# Altium integrated library WE-PD (rev22a).IntLib: 359 symbols (part 3 of 6)
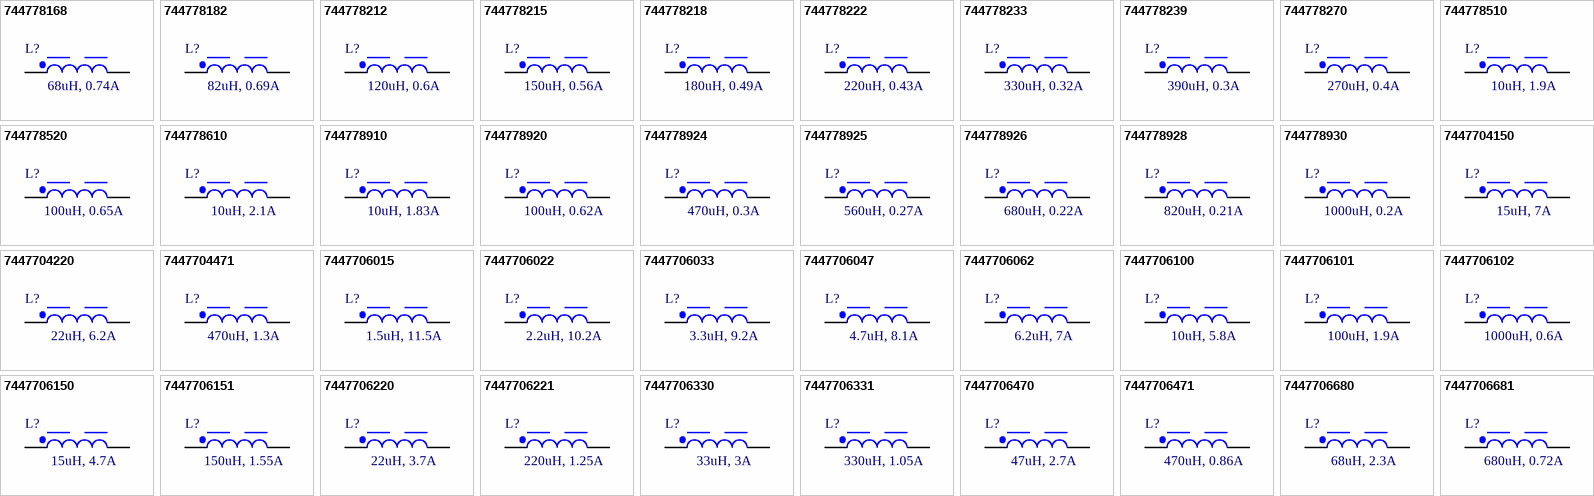
[diagram p10: symbols 744778168 to 7447706681]

## 744778926
designator L?, comment 680uH, 0.22A
WE-PD SMT Power Inductor, size 7332R, 680uH, 0.22A, 5730mOhm; Manufacturer: Wurth Elektronik; Manufacturer Part Number: 744778926; Self Resonant Frequency: 3.4MHz; DC Resistance typ.: 4500mOhm; Type: Robust; ComponentLink1Description: Manufacturer; ComponentLink1URL: http://www.we-online.de; ComponentLink2Description: Datasheet; ComponentLink2URL: https://www.we-online.com/catalog/datasheet/744778926.pdf; Mounting Technology: SMT; Operating Temperature: -40 to +125degC; Packaging: Tape and Reel; DC Resistance max.: 5730mOhm; Inductance: 680uH; Saturation Current: 0.22A; Rated Current: 0.22A; Size: 7332R; Height: 3.2mm; Length: 7.3mm; Width: 7.3mm
footprint WE-PD_7332R
pins: 1, 2

## 744778928
designator L?, comment 820uH, 0.21A
WE-PD SMT Power Inductor, size 7332R, 820uH, 0.21A, 6540mOhm; Manufacturer: Wurth Elektronik; Manufacturer Part Number: 744778928; Self Resonant Frequency: 2.8MHz; DC Resistance typ.: 4990mOhm; Saturation Current: 0.2A; Type: Robust; ComponentLink1Description: Manufacturer; ComponentLink1URL: http://www.we-online.de; ComponentLink2Description: Datasheet; ComponentLink2URL: https://www.we-online.com/catalog/datasheet/744778928.pdf; Mounting Technology: SMT; Operating Temperature: -40 to +125degC; Packaging: Tape and Reel; DC Resistance max.: 6540mOhm; Inductance: 820uH; Rated Current: 0.21A; Size: 7332R; Height: 3.2mm; Length: 7.3mm; Width: 7.3mm
footprint WE-PD_7332R
pins: 1, 2

## 744778930
designator L?, comment 1000uH, 0.2A
WE-PD SMT Power Inductor, size 7332R, 1000uH, 0.2A, 9440mOhm; Manufacturer: Wurth Elektronik; Manufacturer Part Number: 744778930; Self Resonant Frequency: 2.6MHz; DC Resistance typ.: 5570mOhm; Saturation Current: 0.18A; Type: Robust; ComponentLink1Description: Manufacturer; ComponentLink1URL: http://www.we-online.de; ComponentLink2Description: Datasheet; ComponentLink2URL: https://www.we-online.com/catalog/datasheet/744778930.pdf; Mounting Technology: SMT; Operating Temperature: -40 to +125degC; Packaging: Tape and Reel; DC Resistance max.: 9440mOhm; Inductance: 1000uH; Rated Current: 0.2A; Size: 7332R; Height: 3.2mm; Length: 7.3mm; Width: 7.3mm
footprint WE-PD_7332R
pins: 1, 2

## 7447704150
designator L?, comment 15uH, 7A
WE-PD SMT Power Inductor, size 1510, 15uH, 7A, 26mOhm; Manufacturer: Wurth Elektronik; Manufacturer Part Number: 7447704150; Self Resonant Frequency: 20.5MHz; DC Resistance typ.: 19.5mOhm; Saturation Current: 8.8A; Type: Standard; ComponentLink1Description: Manufacturer; ComponentLink1URL: http://www.we-online.de; ComponentLink2Description: Datasheet; ComponentLink2URL: https://www.we-online.com/catalog/datasheet/7447704150.pdf; Mounting Technology: SMT; Operating Temperature: -40 to +125degC; Packaging: Tape and Reel; DC Resistance max.: 26mOhm; Inductance: 15uH; Rated Current: 7A; Size: 1510; Height: 10mm; Length: 15mm; Width: 15mm
footprint WE-PD_1510
pins: 1, 2

## 7447704220
designator L?, comment 22uH, 6.2A
WE-PD SMT Power Inductor, size 1510, 22uH, 6.2A, 33mOhm; Manufacturer: Wurth Elektronik; Manufacturer Part Number: 7447704220; Self Resonant Frequency: 11.5MHz; DC Resistance typ.: 25mOhm; Saturation Current: 7.2A; Type: Standard; ComponentLink1Description: Manufacturer; ComponentLink1URL: http://www.we-online.de; ComponentLink2Description: Datasheet; ComponentLink2URL: https://www.we-online.com/catalog/datasheet/7447704220.pdf; Mounting Technology: SMT; Operating Temperature: -40 to +125degC; Packaging: Tape and Reel; DC Resistance max.: 33mOhm; Inductance: 22uH; Rated Current: 6.2A; Size: 1510; Height: 10mm; Length: 15mm; Width: 15mm
footprint WE-PD_1510
pins: 1, 2

## 7447704471
designator L?, comment 470uH, 1.3A
WE-PD SMT Power Inductor, size 1510, 470uH, 1.3A, 500mOhm; Manufacturer: Wurth Elektronik; Manufacturer Part Number: 7447704471; Self Resonant Frequency: 1.7MHz; DC Resistance typ.: 425mOhm; Saturation Current: 1.7A; Type: Standard; ComponentLink1Description: Manufacturer; ComponentLink1URL: http://www.we-online.de; ComponentLink2Description: Datasheet; ComponentLink2URL: https://www.we-online.com/catalog/datasheet/7447704471.pdf; Mounting Technology: SMT; Operating Temperature: -40 to +125degC; Packaging: Tape and Reel; DC Resistance max.: 500mOhm; Inductance: 470uH; Rated Current: 1.3A; Size: 1510; Height: 10mm; Length: 15mm; Width: 15mm
footprint WE-PD_1510
pins: 1, 2

## 7447706015
designator L?, comment 1.5uH, 11.5A
WE-PD SMT Power Inductor, size 1260P, 1.5uH, 11.5A, 7mOhm; Manufacturer: Wurth Elektronik; Manufacturer Part Number: 7447706015; Self Resonant Frequency: 50.5MHz; DC Resistance typ.: 5mOhm; Saturation Current: 20A; Type: Performance; ComponentLink1Description: Manufacturer; ComponentLink1URL: http://www.we-online.de; ComponentLink2Description: Datasheet; ComponentLink2URL: https://www.we-online.com/catalog/datasheet/7447706015.pdf; Mounting Technology: SMT; Operating Temperature: -40 to +150degC; Packaging: Tape and Reel; DC Resistance max.: 7mOhm; Inductance: 1.5uH; Rated Current: 11.5A; Size: 1260P; Height: 6mm; Length: 12mm; Width: 12mm
footprint WE-PD_1260P
pins: 1, 2

## 7447706022
designator L?, comment 2.2uH, 10.2A
WE-PD SMT Power Inductor, size 1260P, 2.2uH, 10.2A, 8.5mOhm; Manufacturer: Wurth Elektronik; Manufacturer Part Number: 7447706022; Self Resonant Frequency: 40.2MHz; DC Resistance typ.: 6.2mOhm; Saturation Current: 16.5A; Type: Performance; ComponentLink1Description: Manufacturer; ComponentLink1URL: http://www.we-online.de; ComponentLink2Description: Datasheet; ComponentLink2URL: https://www.we-online.com/catalog/datasheet/7447706022.pdf; Mounting Technology: SMT; Operating Temperature: -40 to +150degC; Packaging: Tape and Reel; DC Resistance max.: 8.5mOhm; Inductance: 2.2uH; Rated Current: 10.2A; Size: 1260P; Height: 6mm; Length: 12mm; Width: 12mm
footprint WE-PD_1260P
pins: 1, 2

## 7447706033
designator L?, comment 3.3uH, 9.2A
WE-PD SMT Power Inductor, size 1260P, 3.3uH, 9.2A, 10mOhm; Manufacturer: Wurth Elektronik; Manufacturer Part Number: 7447706033; Self Resonant Frequency: 32.2MHz; DC Resistance typ.: 7.5mOhm; Saturation Current: 13.5A; Type: Performance; ComponentLink1Description: Manufacturer; ComponentLink1URL: http://www.we-online.de; ComponentLink2Description: Datasheet; ComponentLink2URL: https://www.we-online.com/catalog/datasheet/7447706033.pdf; Mounting Technology: SMT; Operating Temperature: -40 to +150degC; Packaging: Tape and Reel; DC Resistance max.: 10mOhm; Inductance: 3.3uH; Rated Current: 9.2A; Size: 1260P; Height: 6mm; Length: 12mm; Width: 12mm
footprint WE-PD_1260P
pins: 1, 2

## 7447706047
designator L?, comment 4.7uH, 8.1A
WE-PD SMT Power Inductor, size 1260P, 4.7uH, 8.1A, 12mOhm; Manufacturer: Wurth Elektronik; Manufacturer Part Number: 7447706047; Self Resonant Frequency: 27.4MHz; DC Resistance typ.: 9mOhm; Saturation Current: 11.5A; Type: Performance; ComponentLink1Description: Manufacturer; ComponentLink1URL: http://www.we-online.de; ComponentLink2Description: Datasheet; ComponentLink2URL: https://www.we-online.com/catalog/datasheet/7447706047.pdf; Mounting Technology: SMT; Operating Temperature: -40 to +150degC; Packaging: Tape and Reel; DC Resistance max.: 12mOhm; Inductance: 4.7uH; Rated Current: 8.1A; Size: 1260P; Height: 6mm; Length: 12mm; Width: 12mm
footprint WE-PD_1260P
pins: 1, 2

## 7447706062
designator L?, comment 6.2uH, 7A
WE-PD SMT Power Inductor, size 1260P, 6.2uH, 7A, 15mOhm; Manufacturer: Wurth Elektronik; Manufacturer Part Number: 7447706062; Self Resonant Frequency: 22.5MHz; DC Resistance typ.: 12mOhm; Saturation Current: 10A; Type: Performance; ComponentLink1Description: Manufacturer; ComponentLink1URL: http://www.we-online.de; ComponentLink2Description: Datasheet; ComponentLink2URL: https://www.we-online.com/catalog/datasheet/7447706062.pdf; Mounting Technology: SMT; Operating Temperature: -40 to +150degC; Packaging: Tape and Reel; DC Resistance max.: 15mOhm; Inductance: 6.2uH; Rated Current: 7A; Size: 1260P; Height: 6mm; Length: 12mm; Width: 12mm
footprint WE-PD_1260P
pins: 1, 2

## 7447706100
designator L?, comment 10uH, 5.8A
WE-PD SMT Power Inductor, size 1260P, 10uH, 5.8A, 20mOhm; Manufacturer: Wurth Elektronik; Manufacturer Part Number: 7447706100; Self Resonant Frequency: 17.6MHz; DC Resistance typ.: 16.3mOhm; Saturation Current: 7.8A; Type: Performance; ComponentLink1Description: Manufacturer; ComponentLink1URL: http://www.we-online.de; ComponentLink2Description: Datasheet; ComponentLink2URL: https://www.we-online.com/catalog/datasheet/7447706100.pdf; Mounting Technology: SMT; Operating Temperature: -40 to +150degC; Packaging: Tape and Reel; DC Resistance max.: 20mOhm; Inductance: 10uH; Rated Current: 5.8A; Size: 1260P; Height: 6mm; Length: 12mm; Width: 12mm
footprint WE-PD_1260P
pins: 1, 2

## 7447706101
designator L?, comment 100uH, 1.9A
WE-PD SMT Power Inductor, size 1260P, 100uH, 1.9A, 140mOhm; Manufacturer: Wurth Elektronik; Manufacturer Part Number: 7447706101; Self Resonant Frequency: 5.2MHz; DC Resistance typ.: 122mOhm; Saturation Current: 2.5A; Type: Performance; ComponentLink1Description: Manufacturer; ComponentLink1URL: http://www.we-online.de; ComponentLink2Description: Datasheet; ComponentLink2URL: https://www.we-online.com/catalog/datasheet/7447706101.pdf; Mounting Technology: SMT; Operating Temperature: -40 to +150degC; Packaging: Tape and Reel; DC Resistance max.: 140mOhm; Inductance: 100uH; Rated Current: 1.9A; Size: 1260P; Height: 6mm; Length: 12mm; Width: 12mm
footprint WE-PD_1260P
pins: 1, 2

## 7447706102
designator L?, comment 1000uH, 0.6A
WE-PD SMT Power Inductor, size 1260P, 1000uH, 0.6A, 1250mOhm; Manufacturer: Wurth Elektronik; Manufacturer Part Number: 7447706102; Self Resonant Frequency: 1.45MHz; DC Resistance typ.: 1150mOhm; Saturation Current: 0.8A; Type: Performance; ComponentLink1Description: Manufacturer; ComponentLink1URL: http://www.we-online.de; ComponentLink2Description: Datasheet; ComponentLink2URL: https://www.we-online.com/catalog/datasheet/7447706102.pdf; Mounting Technology: SMT; Operating Temperature: -40 to +150degC; Packaging: Tape and Reel; DC Resistance max.: 1250mOhm; Inductance: 1000uH; Rated Current: 0.6A; Size: 1260P; Height: 6mm; Length: 12mm; Width: 12mm
footprint WE-PD_1260P
pins: 1, 2

## 7447706150
designator L?, comment 15uH, 4.7A
WE-PD SMT Power Inductor, size 1260P, 15uH, 4.7A, 28mOhm; Manufacturer: Wurth Elektronik; Manufacturer Part Number: 7447706150; Self Resonant Frequency: 13.9MHz; DC Resistance typ.: 22.9mOhm; Saturation Current: 6.4A; Type: Performance; ComponentLink1Description: Manufacturer; ComponentLink1URL: http://www.we-online.de; ComponentLink2Description: Datasheet; ComponentLink2URL: https://www.we-online.com/catalog/datasheet/7447706150.pdf; Mounting Technology: SMT; Operating Temperature: -40 to +150degC; Packaging: Tape and Reel; DC Resistance max.: 28mOhm; Inductance: 15uH; Rated Current: 4.7A; Size: 1260P; Height: 6mm; Length: 12mm; Width: 12mm
footprint WE-PD_1260P
pins: 1, 2

## 7447706151
designator L?, comment 150uH, 1.55A
WE-PD SMT Power Inductor, size 1260P, 150uH, 1.55A, 200mOhm; Manufacturer: Wurth Elektronik; Manufacturer Part Number: 7447706151; Self Resonant Frequency: 4.2MHz; DC Resistance typ.: 175mOhm; Saturation Current: 2A; Type: Performance; ComponentLink1Description: Manufacturer; ComponentLink1URL: http://www.we-online.de; ComponentLink2Description: Datasheet; ComponentLink2URL: https://www.we-online.com/catalog/datasheet/7447706151.pdf; Mounting Technology: SMT; Operating Temperature: -40 to +150degC; Packaging: Tape and Reel; DC Resistance max.: 200mOhm; Inductance: 150uH; Rated Current: 1.55A; Size: 1260P; Height: 6mm; Length: 12mm; Width: 12mm
footprint WE-PD_1260P
pins: 1, 2

## 7447706220
designator L?, comment 22uH, 3.7A
WE-PD SMT Power Inductor, size 1260P, 22uH, 3.7A, 41mOhm; Manufacturer: Wurth Elektronik; Manufacturer Part Number: 7447706220; Self Resonant Frequency: 11MHz; DC Resistance typ.: 34.3mOhm; Saturation Current: 5.2A; Type: Performance; ComponentLink1Description: Manufacturer; ComponentLink1URL: http://www.we-online.de; ComponentLink2Description: Datasheet; ComponentLink2URL: https://www.we-online.com/catalog/datasheet/7447706220.pdf; Mounting Technology: SMT; Operating Temperature: -40 to +150degC; Packaging: Tape and Reel; DC Resistance max.: 41mOhm; Inductance: 22uH; Rated Current: 3.7A; Size: 1260P; Height: 6mm; Length: 12mm; Width: 12mm
footprint WE-PD_1260P
pins: 1, 2

## 7447706221
designator L?, comment 220uH, 1.25A
WE-PD SMT Power Inductor, size 1260P, 220uH, 1.25A, 310mOhm; Manufacturer: Wurth Elektronik; Manufacturer Part Number: 7447706221; Self Resonant Frequency: 3.3MHz; DC Resistance typ.: 273mOhm; Saturation Current: 1.7A; Type: Performance; ComponentLink1Description: Manufacturer; ComponentLink1URL: http://www.we-online.de; ComponentLink2Description: Datasheet; ComponentLink2URL: https://www.we-online.com/catalog/datasheet/7447706221.pdf; Mounting Technology: SMT; Operating Temperature: -40 to +150degC; Packaging: Tape and Reel; DC Resistance max.: 310mOhm; Inductance: 220uH; Rated Current: 1.25A; Size: 1260P; Height: 6mm; Length: 12mm; Width: 12mm
footprint WE-PD_1260P
pins: 1, 2

## 7447706330
designator L?, comment 33uH, 3A
WE-PD SMT Power Inductor, size 1260P, 33uH, 3A, 60mOhm; Manufacturer: Wurth Elektronik; Manufacturer Part Number: 7447706330; Self Resonant Frequency: 9.2MHz; DC Resistance typ.: 50.8mOhm; Saturation Current: 4.2A; Type: Performance; ComponentLink1Description: Manufacturer; ComponentLink1URL: http://www.we-online.de; ComponentLink2Description: Datasheet; ComponentLink2URL: https://www.we-online.com/catalog/datasheet/7447706330.pdf; Mounting Technology: SMT; Operating Temperature: -40 to +150degC; Packaging: Tape and Reel; DC Resistance max.: 60mOhm; Inductance: 33uH; Rated Current: 3A; Size: 1260P; Height: 6mm; Length: 12mm; Width: 12mm
footprint WE-PD_1260P
pins: 1, 2

## 7447706331
designator L?, comment 330uH, 1.05A
WE-PD SMT Power Inductor, size 1260P, 330uH, 1.05A, 450mOhm; Manufacturer: Wurth Elektronik; Manufacturer Part Number: 7447706331; Self Resonant Frequency: 2.6MHz; DC Resistance typ.: 395mOhm; Saturation Current: 1.4A; Type: Performance; ComponentLink1Description: Manufacturer; ComponentLink1URL: http://www.we-online.de; ComponentLink2Description: Datasheet; ComponentLink2URL: https://www.we-online.com/catalog/datasheet/7447706331.pdf; Mounting Technology: SMT; Operating Temperature: -40 to +150degC; Packaging: Tape and Reel; DC Resistance max.: 450mOhm; Inductance: 330uH; Rated Current: 1.05A; Size: 1260P; Height: 6mm; Length: 12mm; Width: 12mm
footprint WE-PD_1260P
pins: 1, 2

## 7447706470
designator L?, comment 47uH, 2.7A
WE-PD SMT Power Inductor, size 1260P, 47uH, 2.7A, 72mOhm; Manufacturer: Wurth Elektronik; Manufacturer Part Number: 7447706470; Self Resonant Frequency: 7.5MHz; DC Resistance typ.: 61.2mOhm; Saturation Current: 3.6A; Type: Performance; ComponentLink1Description: Manufacturer; ComponentLink1URL: http://www.we-online.de; ComponentLink2Description: Datasheet; ComponentLink2URL: https://www.we-online.com/catalog/datasheet/7447706470.pdf; Mounting Technology: SMT; Operating Temperature: -40 to +150degC; Packaging: Tape and Reel; DC Resistance max.: 72mOhm; Inductance: 47uH; Rated Current: 2.7A; Size: 1260P; Height: 6mm; Length: 12mm; Width: 12mm
footprint WE-PD_1260P
pins: 1, 2

## 7447706471
designator L?, comment 470uH, 0.86A
WE-PD SMT Power Inductor, size 1260P, 470uH, 0.86A, 610mOhm; Manufacturer: Wurth Elektronik; Manufacturer Part Number: 7447706471; Self Resonant Frequency: 2.3MHz; DC Resistance typ.: 543mOhm; Saturation Current: 1.15A; Type: Performance; ComponentLink1Description: Manufacturer; ComponentLink1URL: http://www.we-online.de; ComponentLink2Description: Datasheet; ComponentLink2URL: https://www.we-online.com/catalog/datasheet/7447706471.pdf; Mounting Technology: SMT; Operating Temperature: -40 to +150degC; Packaging: Tape and Reel; DC Resistance max.: 610mOhm; Inductance: 470uH; Rated Current: 0.86A; Size: 1260P; Height: 6mm; Length: 12mm; Width: 12mm
footprint WE-PD_1260P
pins: 1, 2

## 7447706680
designator L?, comment 68uH, 2.3A
WE-PD SMT Power Inductor, size 1260P, 68uH, 2.3A, 97mOhm; Manufacturer: Wurth Elektronik; Manufacturer Part Number: 7447706680; Self Resonant Frequency: 6.5MHz; DC Resistance typ.: 82mOhm; Saturation Current: 3A; Type: Performance; ComponentLink1Description: Manufacturer; ComponentLink1URL: http://www.we-online.de; ComponentLink2Description: Datasheet; ComponentLink2URL: https://www.we-online.com/catalog/datasheet/7447706680.pdf; Mounting Technology: SMT; Operating Temperature: -40 to +150degC; Packaging: Tape and Reel; DC Resistance max.: 97mOhm; Inductance: 68uH; Rated Current: 2.3A; Size: 1260P; Height: 6mm; Length: 12mm; Width: 12mm
footprint WE-PD_1260P
pins: 1, 2

## 7447706681
designator L?, comment 680uH, 0.72A
WE-PD SMT Power Inductor, size 1260P, 680uH, 0.72A, 860mOhm; Manufacturer: Wurth Elektronik; Manufacturer Part Number: 7447706681; Self Resonant Frequency: 1.8MHz; DC Resistance typ.: 780mOhm; Saturation Current: 0.95A; Type: Performance; ComponentLink1Description: Manufacturer; ComponentLink1URL: http://www.we-online.de; ComponentLink2Description: Datasheet; ComponentLink2URL: https://www.we-online.com/catalog/datasheet/7447706681.pdf; Mounting Technology: SMT; Operating Temperature: -40 to +150degC; Packaging: Tape and Reel; DC Resistance max.: 860mOhm; Inductance: 680uH; Rated Current: 0.72A; Size: 1260P; Height: 6mm; Length: 12mm; Width: 12mm
footprint WE-PD_1260P
pins: 1, 2

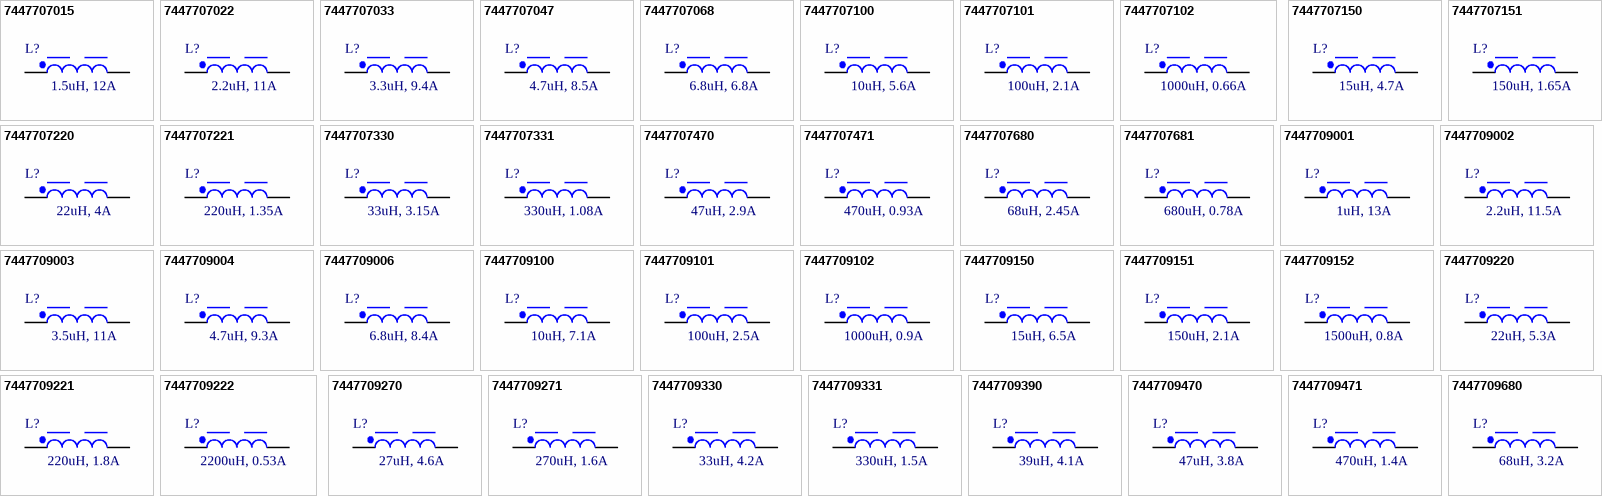
[diagram p4: symbols 7447707015 to 7447709680]

## 7447707015
designator L?, comment 1.5uH, 12A
WE-PD SMT Power Inductor, size 1280P, 1.5uH, 12A, 5.5mOhm; Manufacturer: Wurth Elektronik; Manufacturer Part Number: 7447707015; Self Resonant Frequency: 49.2MHz; DC Resistance typ.: 4.6mOhm; Saturation Current: 24A; Type: Performance; ComponentLink1Description: Manufacturer; ComponentLink1URL: http://www.we-online.de; ComponentLink2Description: Datasheet; ComponentLink2URL: https://www.we-online.com/catalog/datasheet/7447707015.pdf; Mounting Technology: SMT; Operating Temperature: -40 to +150degC; Packaging: Tape and Reel; DC Resistance max.: 5.5mOhm; Inductance: 1.5uH; Rated Current: 12A; Size: 1280P; Height: 8mm; Length: 12mm; Width: 12mm
footprint WE-PD_1280P
pins: 1, 2

## 7447707022
designator L?, comment 2.2uH, 11A
WE-PD SMT Power Inductor, size 1280P, 2.2uH, 11A, 6.8mOhm; Manufacturer: Wurth Elektronik; Manufacturer Part Number: 7447707022; Self Resonant Frequency: 41.7MHz; DC Resistance typ.: 5.7mOhm; Saturation Current: 20.5A; Type: Performance; ComponentLink1Description: Manufacturer; ComponentLink1URL: http://www.we-online.de; ComponentLink2Description: Datasheet; ComponentLink2URL: https://www.we-online.com/catalog/datasheet/7447707022.pdf; Mounting Technology: SMT; Operating Temperature: -40 to +150degC; Packaging: Tape and Reel; DC Resistance max.: 6.8mOhm; Inductance: 2.2uH; Rated Current: 11A; Size: 1280P; Height: 8mm; Length: 12mm; Width: 12mm
footprint WE-PD_1280P
pins: 1, 2

## 7447707033
designator L?, comment 3.3uH, 9.4A
WE-PD SMT Power Inductor, size 1280P, 3.3uH, 9.4A, 9mOhm; Manufacturer: Wurth Elektronik; Manufacturer Part Number: 7447707033; Self Resonant Frequency: 32.3MHz; DC Resistance typ.: 7.5mOhm; Saturation Current: 17.5A; Type: Performance; ComponentLink1Description: Manufacturer; ComponentLink1URL: http://www.we-online.de; ComponentLink2Description: Datasheet; ComponentLink2URL: https://www.we-online.com/catalog/datasheet/7447707033.pdf; Mounting Technology: SMT; Operating Temperature: -40 to +150degC; Packaging: Tape and Reel; DC Resistance max.: 9mOhm; Inductance: 3.3uH; Rated Current: 9.4A; Size: 1280P; Height: 8mm; Length: 12mm; Width: 12mm
footprint WE-PD_1280P
pins: 1, 2

## 7447707047
designator L?, comment 4.7uH, 8.5A
WE-PD SMT Power Inductor, size 1280P, 4.7uH, 8.5A, 10mOhm; Manufacturer: Wurth Elektronik; Manufacturer Part Number: 7447707047; Self Resonant Frequency: 28.8MHz; DC Resistance typ.: 8.5mOhm; Saturation Current: 15.5A; Type: Performance; ComponentLink1Description: Manufacturer; ComponentLink1URL: http://www.we-online.de; ComponentLink2Description: Datasheet; ComponentLink2URL: https://www.we-online.com/catalog/datasheet/7447707047.pdf; Mounting Technology: SMT; Operating Temperature: -40 to +150degC; Packaging: Tape and Reel; DC Resistance max.: 10mOhm; Inductance: 4.7uH; Rated Current: 8.5A; Size: 1280P; Height: 8mm; Length: 12mm; Width: 12mm
footprint WE-PD_1280P
pins: 1, 2

## 7447707068
designator L?, comment 6.8uH, 6.8A
WE-PD SMT Power Inductor, size 1280P, 6.8uH, 6.8A, 14mOhm; Manufacturer: Wurth Elektronik; Manufacturer Part Number: 7447707068; Self Resonant Frequency: 19.1MHz; DC Resistance typ.: 11.8mOhm; Saturation Current: 13A; Type: Performance; ComponentLink1Description: Manufacturer; ComponentLink1URL: http://www.we-online.de; ComponentLink2Description: Datasheet; ComponentLink2URL: https://www.we-online.com/catalog/datasheet/7447707068.pdf; Mounting Technology: SMT; Operating Temperature: -40 to +150degC; Packaging: Tape and Reel; DC Resistance max.: 14mOhm; Inductance: 6.8uH; Rated Current: 6.8A; Size: 1280P; Height: 8mm; Length: 12mm; Width: 12mm
footprint WE-PD_1280P
pins: 1, 2

## 7447707100
designator L?, comment 10uH, 5.6A
WE-PD SMT Power Inductor, size 1280P, 10uH, 5.6A, 21mOhm; Manufacturer: Wurth Elektronik; Manufacturer Part Number: 7447707100; Self Resonant Frequency: 15.1MHz; DC Resistance typ.: 18mOhm; Saturation Current: 11A; Type: Performance; ComponentLink1Description: Manufacturer; ComponentLink1URL: http://www.we-online.de; ComponentLink2Description: Datasheet; ComponentLink2URL: https://www.we-online.com/catalog/datasheet/7447707100.pdf; Mounting Technology: SMT; Operating Temperature: -40 to +150degC; Packaging: Tape and Reel; DC Resistance max.: 21mOhm; Inductance: 10uH; Rated Current: 5.6A; Size: 1280P; Height: 8mm; Length: 12mm; Width: 12mm
footprint WE-PD_1280P
pins: 1, 2

## 7447707101
designator L?, comment 100uH, 2.1A
WE-PD SMT Power Inductor, size 1280P, 100uH, 2.1A, 120mOhm; Manufacturer: Wurth Elektronik; Manufacturer Part Number: 7447707101; Self Resonant Frequency: 4.3MHz; DC Resistance typ.: 105mOhm; Saturation Current: 3.5A; Type: Performance; ComponentLink1Description: Manufacturer; ComponentLink1URL: http://www.we-online.de; ComponentLink2Description: Datasheet; ComponentLink2URL: https://www.we-online.com/catalog/datasheet/7447707101.pdf; Mounting Technology: SMT; Operating Temperature: -40 to +150degC; Packaging: Tape and Reel; DC Resistance max.: 120mOhm; Inductance: 100uH; Rated Current: 2.1A; Size: 1280P; Height: 8mm; Length: 12mm; Width: 12mm
footprint WE-PD_1280P
pins: 1, 2

## 7447707102
designator L?, comment 1000uH, 0.66A
WE-PD SMT Power Inductor, size 1280P, 1000uH, 0.66A, 1090mOhm; Manufacturer: Wurth Elektronik; Manufacturer Part Number: 7447707102; Self Resonant Frequency: 1.2MHz; DC Resistance typ.: 985mOhm; Saturation Current: 1.1A; Type: Performance; ComponentLink1Description: Manufacturer; ComponentLink1URL: http://www.we-online.de; ComponentLink2Description: Datasheet; ComponentLink2URL: https://www.we-online.com/catalog/datasheet/7447707102.pdf; Mounting Technology: SMT; Operating Temperature: -40 to +150degC; Packaging: Tape and Reel; DC Resistance max.: 1090mOhm; Inductance: 1000uH; Rated Current: 0.66A; Size: 1280P; Height: 8mm; Length: 12mm; Width: 12mm
footprint WE-PD_1280P
pins: 1, 2

## 7447707150
designator L?, comment 15uH, 4.7A
WE-PD SMT Power Inductor, size 1280P, 15uH, 4.7A, 26.5mOhm; Manufacturer: Wurth Elektronik; Manufacturer Part Number: 7447707150; Self Resonant Frequency: 13.2MHz; DC Resistance typ.: 23mOhm; Saturation Current: 9A; Type: Performance; ComponentLink1Description: Manufacturer; ComponentLink1URL: http://www.we-online.de; ComponentLink2Description: Datasheet; ComponentLink2URL: https://www.we-online.com/catalog/datasheet/7447707150.pdf; Mounting Technology: SMT; Operating Temperature: -40 to +150degC; Packaging: Tape and Reel; DC Resistance max.: 26.5mOhm; Inductance: 15uH; Rated Current: 4.7A; Size: 1280P; Height: 8mm; Length: 12mm; Width: 12mm
footprint WE-PD_1280P
pins: 1, 2

## 7447707151
designator L?, comment 150uH, 1.65A
WE-PD SMT Power Inductor, size 1280P, 150uH, 1.65A, 190mOhm; Manufacturer: Wurth Elektronik; Manufacturer Part Number: 7447707151; Self Resonant Frequency: 3.5MHz; DC Resistance typ.: 165mOhm; Saturation Current: 2.8A; Type: Performance; ComponentLink1Description: Manufacturer; ComponentLink1URL: http://www.we-online.de; ComponentLink2Description: Datasheet; ComponentLink2URL: https://www.we-online.com/catalog/datasheet/7447707151.pdf; Mounting Technology: SMT; Operating Temperature: -40 to +150degC; Packaging: Tape and Reel; DC Resistance max.: 190mOhm; Inductance: 150uH; Rated Current: 1.65A; Size: 1280P; Height: 8mm; Length: 12mm; Width: 12mm
footprint WE-PD_1280P
pins: 1, 2

## 7447707220
designator L?, comment 22uH, 4A
WE-PD SMT Power Inductor, size 1280P, 22uH, 4A, 36mOhm; Manufacturer: Wurth Elektronik; Manufacturer Part Number: 7447707220; Self Resonant Frequency: 10.2MHz; DC Resistance typ.: 31.5mOhm; Saturation Current: 7.4A; Type: Performance; ComponentLink1Description: Manufacturer; ComponentLink1URL: http://www.we-online.de; ComponentLink2Description: Datasheet; ComponentLink2URL: https://www.we-online.com/catalog/datasheet/7447707220.pdf; Mounting Technology: SMT; Operating Temperature: -40 to +150degC; Packaging: Tape and Reel; DC Resistance max.: 36mOhm; Inductance: 22uH; Rated Current: 4A; Size: 1280P; Height: 8mm; Length: 12mm; Width: 12mm
footprint WE-PD_1280P
pins: 1, 2

## 7447707221
designator L?, comment 220uH, 1.35A
WE-PD SMT Power Inductor, size 1280P, 220uH, 1.35A, 265mOhm; Manufacturer: Wurth Elektronik; Manufacturer Part Number: 7447707221; Self Resonant Frequency: 2.9MHz; DC Resistance typ.: 240mOhm; Saturation Current: 2.35A; Type: Performance; ComponentLink1Description: Manufacturer; ComponentLink1URL: http://www.we-online.de; ComponentLink2Description: Datasheet; ComponentLink2URL: https://www.we-online.com/catalog/datasheet/7447707221.pdf; Mounting Technology: SMT; Operating Temperature: -40 to +150degC; Packaging: Tape and Reel; DC Resistance max.: 265mOhm; Inductance: 220uH; Rated Current: 1.35A; Size: 1280P; Height: 8mm; Length: 12mm; Width: 12mm
footprint WE-PD_1280P
pins: 1, 2

## 7447707330
designator L?, comment 33uH, 3.15A
WE-PD SMT Power Inductor, size 1280P, 33uH, 3.15A, 53mOhm; Manufacturer: Wurth Elektronik; Manufacturer Part Number: 7447707330; Self Resonant Frequency: 8.3MHz; DC Resistance typ.: 46.5mOhm; Saturation Current: 6.1A; Type: Performance; ComponentLink1Description: Manufacturer; ComponentLink1URL: http://www.we-online.de; ComponentLink2Description: Datasheet; ComponentLink2URL: https://www.we-online.com/catalog/datasheet/7447707330.pdf; Mounting Technology: SMT; Operating Temperature: -40 to +150degC; Packaging: Tape and Reel; DC Resistance max.: 53mOhm; Inductance: 33uH; Rated Current: 3.15A; Size: 1280P; Height: 8mm; Length: 12mm; Width: 12mm
footprint WE-PD_1280P
pins: 1, 2

## 7447707331
designator L?, comment 330uH, 1.08A
WE-PD SMT Power Inductor, size 1280P, 330uH, 1.08A, 410mOhm; Manufacturer: Wurth Elektronik; Manufacturer Part Number: 7447707331; Self Resonant Frequency: 2.1MHz; DC Resistance typ.: 370mOhm; Saturation Current: 1.9A; Type: Performance; ComponentLink1Description: Manufacturer; ComponentLink1URL: http://www.we-online.de; ComponentLink2Description: Datasheet; ComponentLink2URL: https://www.we-online.com/catalog/datasheet/7447707331.pdf; Mounting Technology: SMT; Operating Temperature: -40 to +150degC; Packaging: Tape and Reel; DC Resistance max.: 410mOhm; Inductance: 330uH; Rated Current: 1.08A; Size: 1280P; Height: 8mm; Length: 12mm; Width: 12mm
footprint WE-PD_1280P
pins: 1, 2

## 7447707470
designator L?, comment 47uH, 2.9A
WE-PD SMT Power Inductor, size 1280P, 47uH, 2.9A, 63mOhm; Manufacturer: Wurth Elektronik; Manufacturer Part Number: 7447707470; Self Resonant Frequency: 7.2MHz; DC Resistance typ.: 55mOhm; Saturation Current: 5.1A; Type: Performance; ComponentLink1Description: Manufacturer; ComponentLink1URL: http://www.we-online.de; ComponentLink2Description: Datasheet; ComponentLink2URL: https://www.we-online.com/catalog/datasheet/7447707470.pdf; Mounting Technology: SMT; Operating Temperature: -40 to +150degC; Packaging: Tape and Reel; DC Resistance max.: 63mOhm; Inductance: 47uH; Rated Current: 2.9A; Size: 1280P; Height: 8mm; Length: 12mm; Width: 12mm
footprint WE-PD_1280P
pins: 1, 2

## 7447707471
designator L?, comment 470uH, 0.93A
WE-PD SMT Power Inductor, size 1280P, 470uH, 0.93A, 540mOhm; Manufacturer: Wurth Elektronik; Manufacturer Part Number: 7447707471; Self Resonant Frequency: 1.9MHz; DC Resistance typ.: 490mOhm; Saturation Current: 1.6A; Type: Performance; ComponentLink1Description: Manufacturer; ComponentLink1URL: http://www.we-online.de; ComponentLink2Description: Datasheet; ComponentLink2URL: https://www.we-online.com/catalog/datasheet/7447707471.pdf; Mounting Technology: SMT; Operating Temperature: -40 to +150degC; Packaging: Tape and Reel; DC Resistance max.: 540mOhm; Inductance: 470uH; Rated Current: 0.93A; Size: 1280P; Height: 8mm; Length: 12mm; Width: 12mm
footprint WE-PD_1280P
pins: 1, 2

## 7447707680
designator L?, comment 68uH, 2.45A
WE-PD SMT Power Inductor, size 1280P, 68uH, 2.45A, 90mOhm; Manufacturer: Wurth Elektronik; Manufacturer Part Number: 7447707680; Self Resonant Frequency: 5.5MHz; DC Resistance typ.: 78mOhm; Saturation Current: 4.2A; Type: Performance; ComponentLink1Description: Manufacturer; ComponentLink1URL: http://www.we-online.de; ComponentLink2Description: Datasheet; ComponentLink2URL: https://www.we-online.com/catalog/datasheet/7447707680.pdf; Mounting Technology: SMT; Operating Temperature: -40 to +150degC; Packaging: Tape and Reel; DC Resistance max.: 90mOhm; Inductance: 68uH; Rated Current: 2.45A; Size: 1280P; Height: 8mm; Length: 12mm; Width: 12mm
footprint WE-PD_1280P
pins: 1, 2

## 7447707681
designator L?, comment 680uH, 0.78A
WE-PD SMT Power Inductor, size 1280P, 680uH, 0.78A, 770mOhm; Manufacturer: Wurth Elektronik; Manufacturer Part Number: 7447707681; Self Resonant Frequency: 1.5MHz; DC Resistance typ.: 700mOhm; Saturation Current: 1.3A; Type: Performance; ComponentLink1Description: Manufacturer; ComponentLink1URL: http://www.we-online.de; ComponentLink2Description: Datasheet; ComponentLink2URL: https://www.we-online.com/catalog/datasheet/7447707681.pdf; Mounting Technology: SMT; Operating Temperature: -40 to +150degC; Packaging: Tape and Reel; DC Resistance max.: 770mOhm; Inductance: 680uH; Rated Current: 0.78A; Size: 1280P; Height: 8mm; Length: 12mm; Width: 12mm
footprint WE-PD_1280P
pins: 1, 2

## 7447709001
designator L?, comment 1uH, 13A
WE-PD SMT Power Inductor, size 1210, 1uH, 13A, 6mOhm; Manufacturer: Wurth Elektronik; Manufacturer Part Number: 7447709001; Self Resonant Frequency: 120MHz; DC Resistance typ.: 4mOhm; Saturation Current: 25A; Type: Standard; ComponentLink1Description: Manufacturer; ComponentLink1URL: http://www.we-online.de; ComponentLink2Description: Datasheet; ComponentLink2URL: https://www.we-online.com/catalog/datasheet/7447709001.pdf; Mounting Technology: SMT; Operating Temperature: -40 to +125degC; Packaging: Tape and Reel; DC Resistance max.: 6mOhm; Inductance: 1uH; Rated Current: 13A; Size: 1210; Height: 10mm; Length: 12mm; Width: 12mm
footprint WE-PD_1210
pins: 1, 2

## 7447709002
designator L?, comment 2.2uH, 11.5A
WE-PD SMT Power Inductor, size 1210, 2.2uH, 11.5A, 6mOhm; Manufacturer: Wurth Elektronik; Manufacturer Part Number: 7447709002; Self Resonant Frequency: 65MHz; DC Resistance typ.: 5mOhm; Saturation Current: 20A; Type: Standard; ComponentLink1Description: Manufacturer; ComponentLink1URL: http://www.we-online.de; ComponentLink2Description: Datasheet; ComponentLink2URL: https://www.we-online.com/catalog/datasheet/7447709002.pdf; Mounting Technology: SMT; Operating Temperature: -40 to +125degC; Packaging: Tape and Reel; DC Resistance max.: 6mOhm; Inductance: 2.2uH; Rated Current: 11.5A; Size: 1210; Height: 10mm; Length: 12mm; Width: 12mm
footprint WE-PD_1210
pins: 1, 2

## 7447709003
designator L?, comment 3.5uH, 11A
WE-PD SMT Power Inductor, size 1210, 3.5uH, 11A, 9mOhm; Manufacturer: Wurth Elektronik; Manufacturer Part Number: 7447709003; Self Resonant Frequency: 45MHz; DC Resistance typ.: 6mOhm; Saturation Current: 16.5A; Type: Standard; ComponentLink1Description: Manufacturer; ComponentLink1URL: http://www.we-online.de; ComponentLink2Description: Datasheet; ComponentLink2URL: https://www.we-online.com/catalog/datasheet/7447709003.pdf; Mounting Technology: SMT; Operating Temperature: -40 to +125degC; Packaging: Tape and Reel; DC Resistance max.: 9mOhm; Inductance: 3.5uH; Rated Current: 11A; Size: 1210; Height: 10mm; Length: 12mm; Width: 12mm
footprint WE-PD_1210
pins: 1, 2

## 7447709004
designator L?, comment 4.7uH, 9.3A
WE-PD SMT Power Inductor, size 1210, 4.7uH, 9.3A, 11mOhm; Manufacturer: Wurth Elektronik; Manufacturer Part Number: 7447709004; Self Resonant Frequency: 38MHz; DC Resistance typ.: 7mOhm; Saturation Current: 13A; Type: Standard; ComponentLink1Description: Manufacturer; ComponentLink1URL: http://www.we-online.de; ComponentLink2Description: Datasheet; ComponentLink2URL: https://www.we-online.com/catalog/datasheet/7447709004.pdf; Mounting Technology: SMT; Operating Temperature: -40 to +125degC; Packaging: Tape and Reel; DC Resistance max.: 11mOhm; Inductance: 4.7uH; Rated Current: 9.3A; Size: 1210; Height: 10mm; Length: 12mm; Width: 12mm
footprint WE-PD_1210
pins: 1, 2

## 7447709006
designator L?, comment 6.8uH, 8.4A
WE-PD SMT Power Inductor, size 1210, 6.8uH, 8.4A, 14mOhm; Manufacturer: Wurth Elektronik; Manufacturer Part Number: 7447709006; Self Resonant Frequency: 23MHz; DC Resistance typ.: 9mOhm; Saturation Current: 12.8A; Type: Standard; ComponentLink1Description: Manufacturer; ComponentLink1URL: http://www.we-online.de; ComponentLink2Description: Datasheet; ComponentLink2URL: https://www.we-online.com/catalog/datasheet/7447709006.pdf; Mounting Technology: SMT; Operating Temperature: -40 to +125degC; Packaging: Tape and Reel; DC Resistance max.: 14mOhm; Inductance: 6.8uH; Rated Current: 8.4A; Size: 1210; Height: 10mm; Length: 12mm; Width: 12mm
footprint WE-PD_1210
pins: 1, 2

## 7447709100
designator L?, comment 10uH, 7.1A
WE-PD SMT Power Inductor, size 1210, 10uH, 7.1A, 21mOhm; Manufacturer: Wurth Elektronik; Manufacturer Part Number: 7447709100; Self Resonant Frequency: 21MHz; DC Resistance typ.: 13mOhm; Saturation Current: 10.5A; Type: Standard; ComponentLink1Description: Manufacturer; ComponentLink1URL: http://www.we-online.de; ComponentLink2Description: Datasheet; ComponentLink2URL: https://www.we-online.com/catalog/datasheet/7447709100.pdf; Mounting Technology: SMT; Operating Temperature: -40 to +125degC; Packaging: Tape and Reel; DC Resistance max.: 21mOhm; Inductance: 10uH; Rated Current: 7.1A; Size: 1210; Height: 10mm; Length: 12mm; Width: 12mm
footprint WE-PD_1210
pins: 1, 2

## 7447709101
designator L?, comment 100uH, 2.5A
WE-PD SMT Power Inductor, size 1210, 100uH, 2.5A, 110mOhm; Manufacturer: Wurth Elektronik; Manufacturer Part Number: 7447709101; Self Resonant Frequency: 4.3MHz; DC Resistance typ.: 100mOhm; Saturation Current: 3.1A; Type: Standard; ComponentLink1Description: Manufacturer; ComponentLink1URL: http://www.we-online.de; ComponentLink2Description: Datasheet; ComponentLink2URL: https://www.we-online.com/catalog/datasheet/7447709101.pdf; Mounting Technology: SMT; Operating Temperature: -40 to +125degC; Packaging: Tape and Reel; DC Resistance max.: 110mOhm; Inductance: 100uH; Rated Current: 2.5A; Size: 1210; Height: 10mm; Length: 12mm; Width: 12mm
footprint WE-PD_1210
pins: 1, 2

## 7447709102
designator L?, comment 1000uH, 0.9A
WE-PD SMT Power Inductor, size 1210, 1000uH, 0.9A, 1200mOhm; Manufacturer: Wurth Elektronik; Manufacturer Part Number: 7447709102; Self Resonant Frequency: 1MHz; DC Resistance typ.: 930mOhm; Saturation Current: 1A; Type: Standard; ComponentLink1Description: Manufacturer; ComponentLink1URL: http://www.we-online.de; ComponentLink2Description: Datasheet; ComponentLink2URL: https://www.we-online.com/catalog/datasheet/7447709102.pdf; Mounting Technology: SMT; Operating Temperature: -40 to +125degC; Packaging: Tape and Reel; DC Resistance max.: 1200mOhm; Inductance: 1000uH; Rated Current: 0.9A; Size: 1210; Height: 10mm; Length: 12mm; Width: 12mm
footprint WE-PD_1210
pins: 1, 2

## 7447709150
designator L?, comment 15uH, 6.5A
WE-PD SMT Power Inductor, size 1210, 15uH, 6.5A, 26mOhm; Manufacturer: Wurth Elektronik; Manufacturer Part Number: 7447709150; Self Resonant Frequency: 17MHz; DC Resistance typ.: 21mOhm; Saturation Current: 8A; Type: Standard; ComponentLink1Description: Manufacturer; ComponentLink1URL: http://www.we-online.de; ComponentLink2Description: Datasheet; ComponentLink2URL: https://www.we-online.com/catalog/datasheet/7447709150.pdf; Mounting Technology: SMT; Operating Temperature: -40 to +125degC; Packaging: Tape and Reel; DC Resistance max.: 26mOhm; Inductance: 15uH; Rated Current: 6.5A; Size: 1210; Height: 10mm; Length: 12mm; Width: 12mm
footprint WE-PD_1210
pins: 1, 2

## 7447709151
designator L?, comment 150uH, 2.1A
WE-PD SMT Power Inductor, size 1210, 150uH, 2.1A, 200mOhm; Manufacturer: Wurth Elektronik; Manufacturer Part Number: 7447709151; Self Resonant Frequency: 3.5MHz; DC Resistance typ.: 151mOhm; Saturation Current: 2.7A; Type: Standard; ComponentLink1Description: Manufacturer; ComponentLink1URL: http://www.we-online.de; ComponentLink2Description: Datasheet; ComponentLink2URL: https://www.we-online.com/catalog/datasheet/7447709151.pdf; Mounting Technology: SMT; Operating Temperature: -40 to +125degC; Packaging: Tape and Reel; DC Resistance max.: 200mOhm; Inductance: 150uH; Rated Current: 2.1A; Size: 1210; Height: 10mm; Length: 12mm; Width: 12mm
footprint WE-PD_1210
pins: 1, 2

## 7447709152
designator L?, comment 1500uH, 0.8A
WE-PD SMT Power Inductor, size 1210, 1500uH, 0.8A, 2300mOhm; Manufacturer: Wurth Elektronik; Manufacturer Part Number: 7447709152; Self Resonant Frequency: 0.9MHz; DC Resistance typ.: 1800mOhm; Type: Standard; ComponentLink1Description: Manufacturer; ComponentLink1URL: http://www.we-online.de; ComponentLink2Description: Datasheet; ComponentLink2URL: https://www.we-online.com/catalog/datasheet/7447709152.pdf; Mounting Technology: SMT; Operating Temperature: -40 to +125degC; Packaging: Tape and Reel; DC Resistance max.: 2300mOhm; Inductance: 1500uH; Saturation Current: 0.8A; Rated Current: 0.8A; Size: 1210; Height: 10mm; Length: 12mm; Width: 12mm
footprint WE-PD_1210
pins: 1, 2

## 7447709220
designator L?, comment 22uH, 5.3A
WE-PD SMT Power Inductor, size 1210, 22uH, 5.3A, 28mOhm; Manufacturer: Wurth Elektronik; Manufacturer Part Number: 7447709220; Self Resonant Frequency: 10MHz; DC Resistance typ.: 23mOhm; Saturation Current: 6.5A; Type: Standard; ComponentLink1Description: Manufacturer; ComponentLink1URL: http://www.we-online.de; ComponentLink2Description: Datasheet; ComponentLink2URL: https://www.we-online.com/catalog/datasheet/7447709220.pdf; Mounting Technology: SMT; Operating Temperature: -40 to +125degC; Packaging: Tape and Reel; DC Resistance max.: 28mOhm; Inductance: 22uH; Rated Current: 5.3A; Size: 1210; Height: 10mm; Length: 12mm; Width: 12mm
footprint WE-PD_1210
pins: 1, 2

## 7447709221
designator L?, comment 220uH, 1.8A
WE-PD SMT Power Inductor, size 1210, 220uH, 1.8A, 300mOhm; Manufacturer: Wurth Elektronik; Manufacturer Part Number: 7447709221; Self Resonant Frequency: 2.7MHz; DC Resistance typ.: 193mOhm; Saturation Current: 2.2A; Type: Standard; ComponentLink1Description: Manufacturer; ComponentLink1URL: http://www.we-online.de; ComponentLink2Description: Datasheet; ComponentLink2URL: https://www.we-online.com/catalog/datasheet/7447709221.pdf; Mounting Technology: SMT; Operating Temperature: -40 to +125degC; Packaging: Tape and Reel; DC Resistance max.: 300mOhm; Inductance: 220uH; Rated Current: 1.8A; Size: 1210; Height: 10mm; Length: 12mm; Width: 12mm
footprint WE-PD_1210
pins: 1, 2

## 7447709222
designator L?, comment 2200uH, 0.53A
WE-PD SMT Power Inductor, size 1210, 2200uH, 0.53A, 3750mOhm; Manufacturer: Wurth Elektronik; Manufacturer Part Number: 7447709222; Self Resonant Frequency: 0.66MHz; DC Resistance typ.: 3250mOhm; Saturation Current: 0.75A; Type: Standard; ComponentLink1Description: Manufacturer; ComponentLink1URL: http://www.we-online.de; ComponentLink2Description: Datasheet; ComponentLink2URL: https://www.we-online.com/catalog/datasheet/7447709222.pdf; Mounting Technology: SMT; Operating Temperature: -40 to +125degC; Packaging: Tape and Reel; DC Resistance max.: 3750mOhm; Inductance: 2200uH; Rated Current: 0.53A; Size: 1210; Height: 10mm; Length: 12mm; Width: 12mm
footprint WE-PD_1210
pins: 1, 2

## 7447709270
designator L?, comment 27uH, 4.6A
WE-PD SMT Power Inductor, size 1210, 27uH, 4.6A, 40mOhm; Manufacturer: Wurth Elektronik; Manufacturer Part Number: 7447709270; Self Resonant Frequency: 8MHz; DC Resistance typ.: 30mOhm; Saturation Current: 5.8A; Type: Standard; ComponentLink1Description: Manufacturer; ComponentLink1URL: http://www.we-online.de; ComponentLink2Description: Datasheet; ComponentLink2URL: https://www.we-online.com/catalog/datasheet/7447709270.pdf; Mounting Technology: SMT; Operating Temperature: -40 to +125degC; Packaging: Tape and Reel; DC Resistance max.: 40mOhm; Inductance: 27uH; Rated Current: 4.6A; Size: 1210; Height: 10mm; Length: 12mm; Width: 12mm
footprint WE-PD_1210
pins: 1, 2

## 7447709271
designator L?, comment 270uH, 1.6A
WE-PD SMT Power Inductor, size 1210, 270uH, 1.6A, 330mOhm; Manufacturer: Wurth Elektronik; Manufacturer Part Number: 7447709271; Self Resonant Frequency: 2.5MHz; DC Resistance typ.: 248mOhm; Saturation Current: 2.1A; Type: Standard; ComponentLink1Description: Manufacturer; ComponentLink1URL: http://www.we-online.de; ComponentLink2Description: Datasheet; ComponentLink2URL: https://www.we-online.com/catalog/datasheet/7447709271.pdf; Mounting Technology: SMT; Operating Temperature: -40 to +125degC; Packaging: Tape and Reel; DC Resistance max.: 330mOhm; Inductance: 270uH; Rated Current: 1.6A; Size: 1210; Height: 10mm; Length: 12mm; Width: 12mm
footprint WE-PD_1210
pins: 1, 2

## 7447709330
designator L?, comment 33uH, 4.2A
WE-PD SMT Power Inductor, size 1210, 33uH, 4.2A, 45mOhm; Manufacturer: Wurth Elektronik; Manufacturer Part Number: 7447709330; Self Resonant Frequency: 8.5MHz; DC Resistance typ.: 37mOhm; Saturation Current: 5.5A; Type: Standard; ComponentLink1Description: Manufacturer; ComponentLink1URL: http://www.we-online.de; ComponentLink2Description: Datasheet; ComponentLink2URL: https://www.we-online.com/catalog/datasheet/7447709330.pdf; Mounting Technology: SMT; Operating Temperature: -40 to +125degC; Packaging: Tape and Reel; DC Resistance max.: 45mOhm; Inductance: 33uH; Rated Current: 4.2A; Size: 1210; Height: 10mm; Length: 12mm; Width: 12mm
footprint WE-PD_1210
pins: 1, 2

## 7447709331
designator L?, comment 330uH, 1.5A
WE-PD SMT Power Inductor, size 1210, 330uH, 1.5A, 430mOhm; Manufacturer: Wurth Elektronik; Manufacturer Part Number: 7447709331; Self Resonant Frequency: 2MHz; DC Resistance typ.: 363mOhm; Saturation Current: 1.7A; Type: Standard; ComponentLink1Description: Manufacturer; ComponentLink1URL: http://www.we-online.de; ComponentLink2Description: Datasheet; ComponentLink2URL: https://www.we-online.com/catalog/datasheet/7447709331.pdf; Mounting Technology: SMT; Operating Temperature: -40 to +125degC; Packaging: Tape and Reel; DC Resistance max.: 430mOhm; Inductance: 330uH; Rated Current: 1.5A; Size: 1210; Height: 10mm; Length: 12mm; Width: 12mm
footprint WE-PD_1210
pins: 1, 2

## 7447709390
designator L?, comment 39uH, 4.1A
WE-PD SMT Power Inductor, size 1210, 39uH, 4.1A, 56mOhm; Manufacturer: Wurth Elektronik; Manufacturer Part Number: 7447709390; Self Resonant Frequency: 6MHz; DC Resistance typ.: 44mOhm; Saturation Current: 5A; Type: Standard; ComponentLink1Description: Manufacturer; ComponentLink1URL: http://www.we-online.de; ComponentLink2Description: Datasheet; ComponentLink2URL: https://www.we-online.com/catalog/datasheet/7447709390.pdf; Mounting Technology: SMT; Operating Temperature: -40 to +125degC; Packaging: Tape and Reel; DC Resistance max.: 56mOhm; Inductance: 39uH; Rated Current: 4.1A; Size: 1210; Height: 10mm; Length: 12mm; Width: 12mm
footprint WE-PD_1210
pins: 1, 2

## 7447709470
designator L?, comment 47uH, 3.8A
WE-PD SMT Power Inductor, size 1210, 47uH, 3.8A, 60mOhm; Manufacturer: Wurth Elektronik; Manufacturer Part Number: 7447709470; Self Resonant Frequency: 6.5MHz; DC Resistance typ.: 46mOhm; Saturation Current: 4.5A; Type: Standard; ComponentLink1Description: Manufacturer; ComponentLink1URL: http://www.we-online.de; ComponentLink2Description: Datasheet; ComponentLink2URL: https://www.we-online.com/catalog/datasheet/7447709470.pdf; Mounting Technology: SMT; Operating Temperature: -40 to +125degC; Packaging: Tape and Reel; DC Resistance max.: 60mOhm; Inductance: 47uH; Rated Current: 3.8A; Size: 1210; Height: 10mm; Length: 12mm; Width: 12mm
footprint WE-PD_1210
pins: 1, 2

## 7447709471
designator L?, comment 470uH, 1.4A
WE-PD SMT Power Inductor, size 1210, 470uH, 1.4A, 560mOhm; Manufacturer: Wurth Elektronik; Manufacturer Part Number: 7447709471; Self Resonant Frequency: 1.8MHz; DC Resistance typ.: 437mOhm; Saturation Current: 1.5A; Type: Standard; ComponentLink1Description: Manufacturer; ComponentLink1URL: http://www.we-online.de; ComponentLink2Description: Datasheet; ComponentLink2URL: https://www.we-online.com/catalog/datasheet/7447709471.pdf; Mounting Technology: SMT; Operating Temperature: -40 to +125degC; Packaging: Tape and Reel; DC Resistance max.: 560mOhm; Inductance: 470uH; Rated Current: 1.4A; Size: 1210; Height: 10mm; Length: 12mm; Width: 12mm
footprint WE-PD_1210
pins: 1, 2

## 7447709680
designator L?, comment 68uH, 3.2A
WE-PD SMT Power Inductor, size 1210, 68uH, 3.2A, 89mOhm; Manufacturer: Wurth Elektronik; Manufacturer Part Number: 7447709680; Self Resonant Frequency: 5.5MHz; DC Resistance typ.: 69mOhm; Saturation Current: 3.6A; Type: Standard; ComponentLink1Description: Manufacturer; ComponentLink1URL: http://www.we-online.de; ComponentLink2Description: Datasheet; ComponentLink2URL: https://www.we-online.com/catalog/datasheet/7447709680.pdf; Mounting Technology: SMT; Operating Temperature: -40 to +125degC; Packaging: Tape and Reel; DC Resistance max.: 89mOhm; Inductance: 68uH; Rated Current: 3.2A; Size: 1210; Height: 10mm; Length: 12mm; Width: 12mm
footprint WE-PD_1210
pins: 1, 2

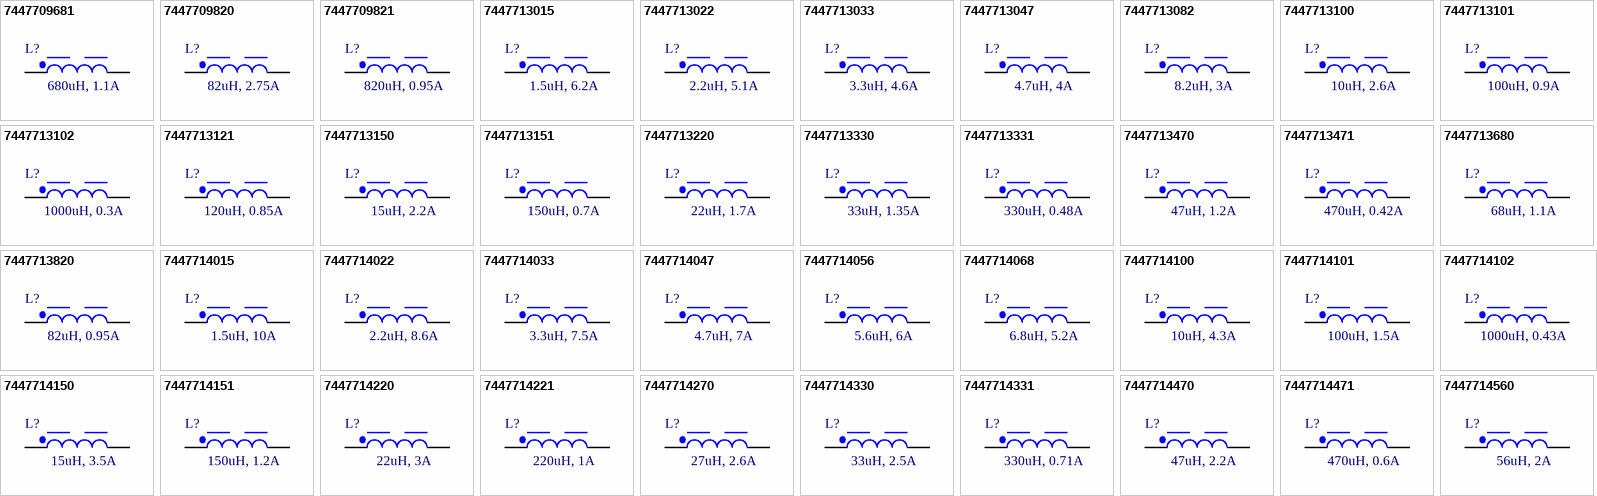
[diagram p5: symbols 7447709681 to 7447714560]

## 7447709681
designator L?, comment 680uH, 1.1A
WE-PD SMT Power Inductor, size 1210, 680uH, 1.1A, 825mOhm; Manufacturer: Wurth Elektronik; Manufacturer Part Number: 7447709681; Self Resonant Frequency: 1.5MHz; DC Resistance typ.: 660mOhm; Saturation Current: 1.3A; Type: Standard; ComponentLink1Description: Manufacturer; ComponentLink1URL: http://www.we-online.de; ComponentLink2Description: Datasheet; ComponentLink2URL: https://www.we-online.com/catalog/datasheet/7447709681.pdf; Mounting Technology: SMT; Operating Temperature: -40 to +125degC; Packaging: Tape and Reel; DC Resistance max.: 825mOhm; Inductance: 680uH; Rated Current: 1.1A; Size: 1210; Height: 10mm; Length: 12mm; Width: 12mm
footprint WE-PD_1210
pins: 1, 2

## 7447709820
designator L?, comment 82uH, 2.75A
WE-PD SMT Power Inductor, size 1210, 82uH, 2.75A, 105mOhm; Manufacturer: Wurth Elektronik; Manufacturer Part Number: 7447709820; Self Resonant Frequency: 4.5MHz; DC Resistance typ.: 90.5mOhm; Saturation Current: 3.4A; Type: Standard; ComponentLink1Description: Manufacturer; ComponentLink1URL: http://www.we-online.de; ComponentLink2Description: Datasheet; ComponentLink2URL: https://www.we-online.com/catalog/datasheet/7447709820.pdf; Mounting Technology: SMT; Operating Temperature: -40 to +125degC; Packaging: Tape and Reel; DC Resistance max.: 105mOhm; Inductance: 82uH; Rated Current: 2.75A; Size: 1210; Height: 10mm; Length: 12mm; Width: 12mm
footprint WE-PD_1210
pins: 1, 2

## 7447709821
designator L?, comment 820uH, 0.95A
WE-PD SMT Power Inductor, size 1210, 820uH, 0.95A, 1000mOhm; Manufacturer: Wurth Elektronik; Manufacturer Part Number: 7447709821; Self Resonant Frequency: 1.2MHz; DC Resistance typ.: 815mOhm; Saturation Current: 1.1A; Type: Standard; ComponentLink1Description: Manufacturer; ComponentLink1URL: http://www.we-online.de; ComponentLink2Description: Datasheet; ComponentLink2URL: https://www.we-online.com/catalog/datasheet/7447709821.pdf; Mounting Technology: SMT; Operating Temperature: -40 to +125degC; Packaging: Tape and Reel; DC Resistance max.: 1000mOhm; Inductance: 820uH; Rated Current: 0.95A; Size: 1210; Height: 10mm; Length: 12mm; Width: 12mm
footprint WE-PD_1210
pins: 1, 2

## 7447713015
designator L?, comment 1.5uH, 6.2A
WE-PD SMT Power Inductor, size 1030P, 1.5uH, 6.2A, 16mOhm; Manufacturer: Wurth Elektronik; Manufacturer Part Number: 7447713015; Self Resonant Frequency: 75MHz; DC Resistance typ.: 13.7mOhm; Saturation Current: 9.5A; Type: Performance; ComponentLink1Description: Manufacturer; ComponentLink1URL: http://www.we-online.de; ComponentLink2Description: Datasheet; ComponentLink2URL: https://www.we-online.com/catalog/datasheet/7447713015.pdf; Mounting Technology: SMT; Operating Temperature: -40 to +150degC; Packaging: Tape and Reel; DC Resistance max.: 16mOhm; Inductance: 1.5uH; Rated Current: 6.2A; Size: 1030P; Height: 3mm; Length: 10mm; Width: 10mm
footprint WE-PD_1030P
pins: 1, 2